# EAGLE library part P82B96-PCA9600 (library NITWHIPS)
P822B96 and PCA9600 bus to bus converter. Bipolar IC creating a non-latching, bidirectional, logic interface between the normal I2C bus and a range of other bus configuration icluding rs485.
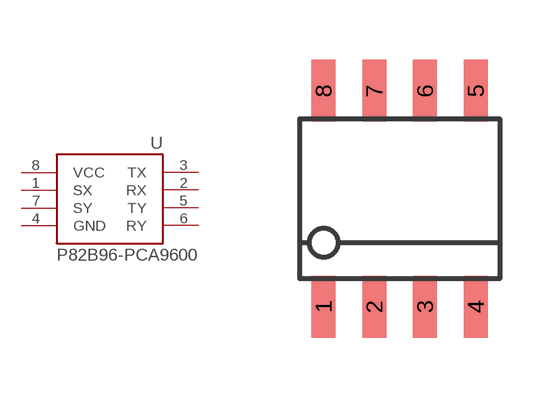
[diagram p0: symbol with the pads of SO-8; footprint SO-8]

Designator prefix -

## P82B96-PCA9600SO-8  [SO-8]
1  SX
2  RX
3  TX
4  GND
5  TY
6  RY
7  SY
8  VCC

## Footprint SO-8 (pad centres in mm)
SO-8
smd 0.6 x 1.55: 1 -1.905,-2.7; 2 -0.635,-2.7; 3 0.635,-2.7; 4 1.905,-2.7; 5 1.905,2.7; 6 0.635,2.7; 7 -0.635,2.7; 8 -1.905,2.7